# Altium schematic symbol library kmilo17pet-LT_ChargePump.SchLib: 599 symbols (part 5 of 29)
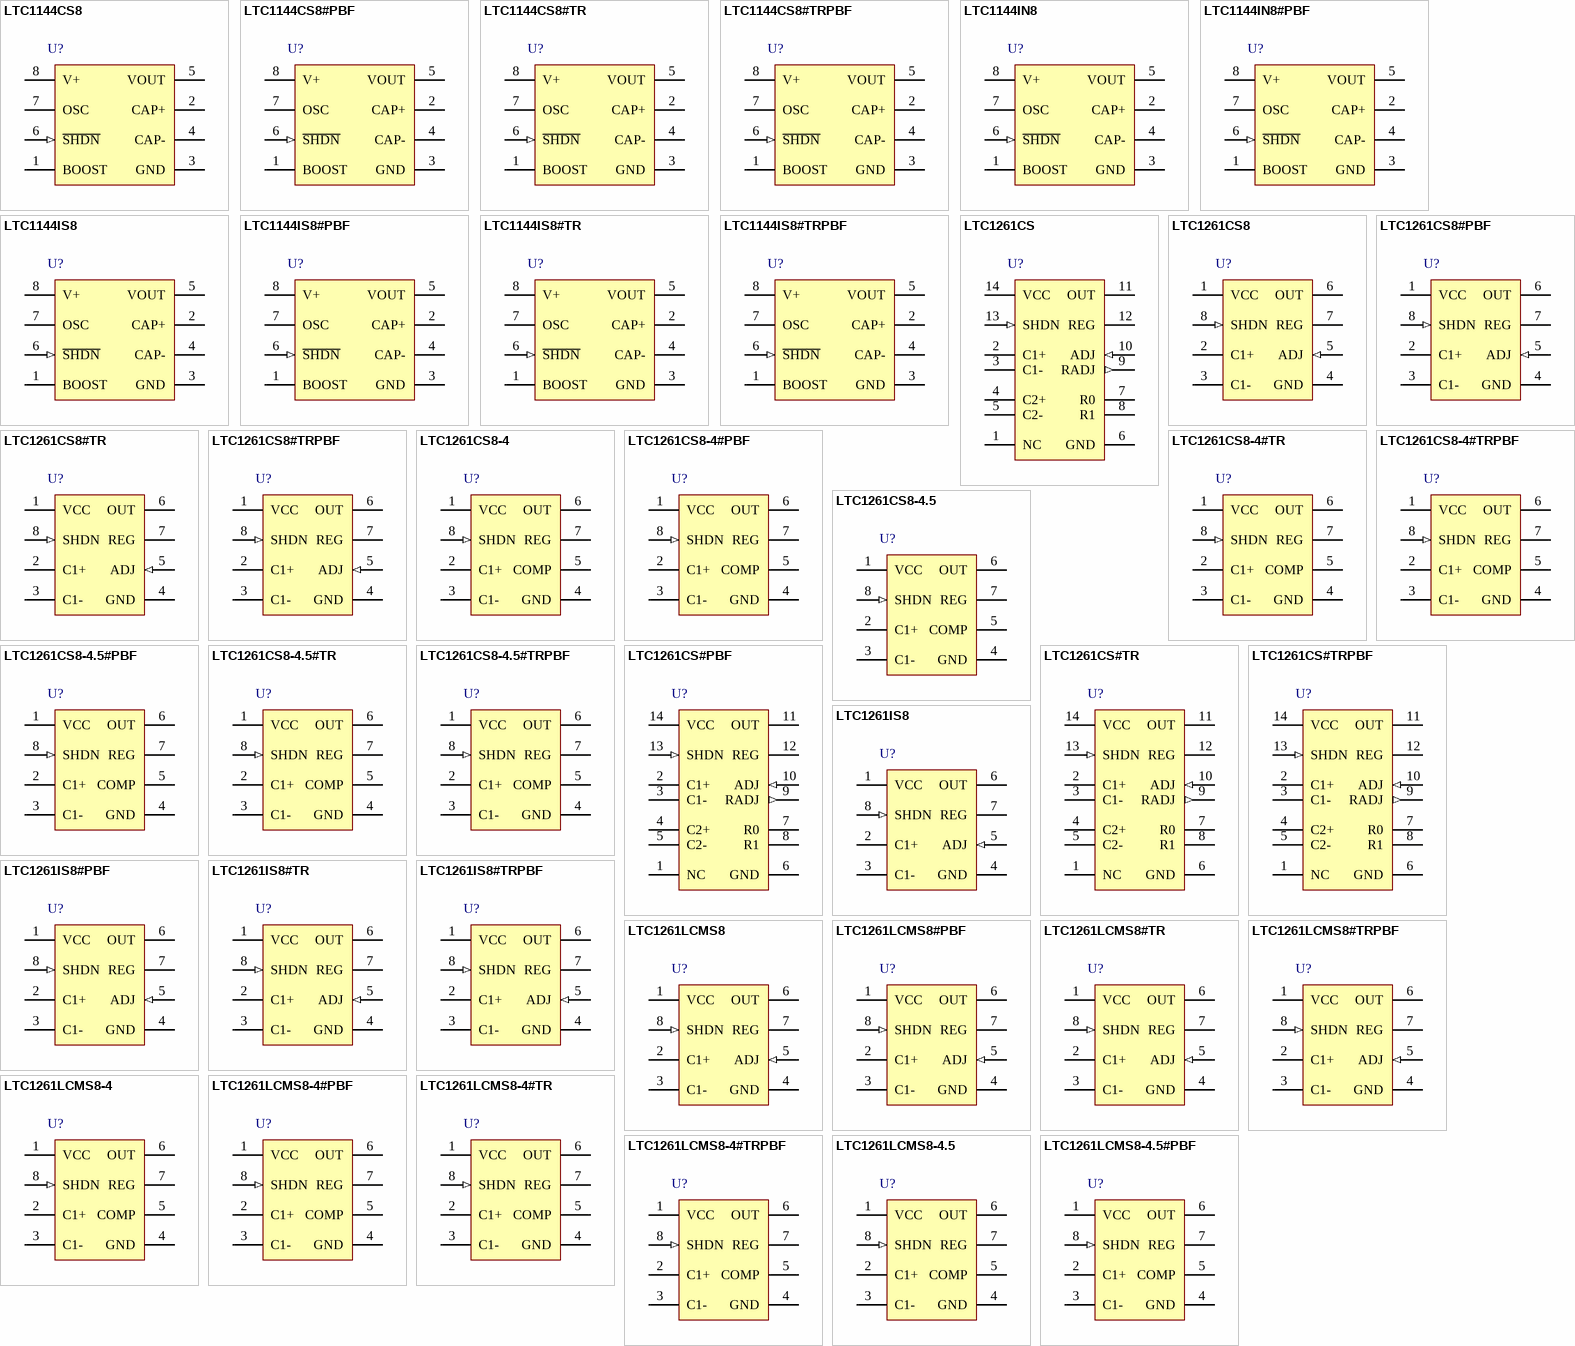
[diagram p20: symbols LTC1144CS8 to LTC1261LCMS8-4.5#PBF]

## LTC1261LCMS8#PBF
designator U?
Switched Capacitor Regulated Voltage Inverter, 2.7 to 5.25 V Vin, Adjustable Vout, 8-pin SOP (MS8-8), 0 to 70 degC, Pb-Free; Manufacturer: Linear Technology; PartNumber: LTC1261LCMS8#PBF; Frequency(kHz): 650; Ishutdown(uA): 5; Isupply(mA): 0.65; Max Iout(mA): 20; Vin Max(V): 5.25; Vin Min(V): 2.7; Voutput: Adj; DatasheetVersion: Rev. A; PackageVersion: Rev. G, 03/2012; PackageReference: MS8-8; PackageDescription: 8-Pin Plastic MSOP, Body 3 x 3 mm, Pitch 0.65 mm; Supplier 1: Digi-Key; Supplier Part Number 1: LTC1261LCMS8#PBF-ND; Supplier 2: Farnell; Supplier Part Number 2: 2294978; Supplier 3: Newark; Supplier Part Number 3: 55M9797; RoHS: TRUE; Mounting Technology: Surface Mount; ComponentLink1Description: Manufacturer URL; ComponentLink1URL: http://www.linear.com/; ComponentLink2Description: Datasheet; ComponentLink2URL: http://cds.linear.com/docs/en/datasheet/1261lfa.pdf; ComponentLink3Description: Package Specification; ComponentLink3URL: http://cds.linear.com/docs/en/packaging/05081660_G_MS8.pdf
footprint LT-MS8-8_N (SOP, 8-Leads, Body 3.1x3.1mm, Pitch 0.65mm, IPC Medium Density)
footprint LT-MS8-8_L (SOP, 8-Leads, Body 3.1x3.1mm, Pitch 0.65mm, IPC High Density)
footprint LT-MS8-8_M (SOP, 8-Leads, Body 3.1x3.1mm, Pitch 0.65mm, IPC Low Density)
pins: 1 VCC (power) "Power Supply.", 2 C1+ "C1 Positive Input. Connect a 0.1uF capacitor between C1+ and C1-.", 3 C1- "C1 Negative Input. Connect a 0.1uF capacitor from C1+ to C1-.", 4 GND (power) "Ground. Connect to a low impedance ground. A ground plane will help to minimize regulation errors.", 5 ADJ (in), 6 OUT (power), 7 REG (oc) "This is an open-drain output that pulls low when the output voltage is within 5% of the set value.", 8 SHDN (in) "Shutdown."

## LTC1261LCMS8#TR
designator U?
Switched Capacitor Regulated Voltage Inverter, 2.7 to 5.25 V Vin, Adjustable Vout, 8-pin SOP (MS8-8), 0 to 70 degC, Tape and Reel; Manufacturer: Linear Technology; PartNumber: LTC1261LCMS8#TR; Frequency(kHz): 650; Ishutdown(uA): 5; Isupply(mA): 0.65; Max Iout(mA): 20; Vin Max(V): 5.25; Vin Min(V): 2.7; Voutput: Adj; DatasheetVersion: Rev. A; PackageVersion: Rev. G, 03/2012; PackageReference: MS8-8; PackageDescription: 8-Pin Plastic MSOP, Body 3 x 3 mm, Pitch 0.65 mm; Supplier 1: Digi-Key; Supplier Part Number 1: LTC1261LCMS8#TR-ND; Packing: Tape and Reel; RoHS: FALSE; Mounting Technology: Surface Mount; ComponentLink1Description: Manufacturer URL; ComponentLink1URL: http://www.linear.com/; ComponentLink2Description: Datasheet; ComponentLink2URL: http://cds.linear.com/docs/en/datasheet/1261lfa.pdf; ComponentLink3Description: Package Specification; ComponentLink3URL: http://cds.linear.com/docs/en/packaging/05081660_G_MS8.pdf
footprint LT-MS8-8_N (SOP, 8-Leads, Body 3.1x3.1mm, Pitch 0.65mm, IPC Medium Density)
footprint LT-MS8-8_L (SOP, 8-Leads, Body 3.1x3.1mm, Pitch 0.65mm, IPC High Density)
footprint LT-MS8-8_M (SOP, 8-Leads, Body 3.1x3.1mm, Pitch 0.65mm, IPC Low Density)
pins: 1 VCC (power) "Power Supply.", 2 C1+ "C1 Positive Input. Connect a 0.1uF capacitor between C1+ and C1-.", 3 C1- "C1 Negative Input. Connect a 0.1uF capacitor from C1+ to C1-.", 4 GND (power) "Ground. Connect to a low impedance ground. A ground plane will help to minimize regulation errors.", 5 ADJ (in), 6 OUT (power), 7 REG (oc) "This is an open-drain output that pulls low when the output voltage is within 5% of the set value.", 8 SHDN (in) "Shutdown."

## LTC1261LCMS8#TRPBF
designator U?
Switched Capacitor Regulated Voltage Inverter, 2.7 to 5.25 V Vin, Adjustable Vout, 8-pin SOP (MS8-8), 0 to 70 degC, Pb-Free, Tape and Reel; Manufacturer: Linear Technology; PartNumber: LTC1261LCMS8#TRPBF; Frequency(kHz): 650; Ishutdown(uA): 5; Isupply(mA): 0.65; Max Iout(mA): 20; Vin Max(V): 5.25; Vin Min(V): 2.7; Voutput: Adj; DatasheetVersion: Rev. A; PackageVersion: Rev. G, 03/2012; PackageReference: MS8-8; PackageDescription: 8-Pin Plastic MSOP, Body 3 x 3 mm, Pitch 0.65 mm; Supplier 1: Digi-Key; Supplier Part Number 1: LTC1261LCMS8#TRPBF-ND; Packing: Tape and Reel; RoHS: TRUE; Mounting Technology: Surface Mount; ComponentLink1Description: Manufacturer URL; ComponentLink1URL: http://www.linear.com/; ComponentLink2Description: Datasheet; ComponentLink2URL: http://cds.linear.com/docs/en/datasheet/1261lfa.pdf; ComponentLink3Description: Package Specification; ComponentLink3URL: http://cds.linear.com/docs/en/packaging/05081660_G_MS8.pdf
footprint LT-MS8-8_N (SOP, 8-Leads, Body 3.1x3.1mm, Pitch 0.65mm, IPC Medium Density)
footprint LT-MS8-8_L (SOP, 8-Leads, Body 3.1x3.1mm, Pitch 0.65mm, IPC High Density)
footprint LT-MS8-8_M (SOP, 8-Leads, Body 3.1x3.1mm, Pitch 0.65mm, IPC Low Density)
pins: 1 VCC (power) "Power Supply.", 2 C1+ "C1 Positive Input. Connect a 0.1uF capacitor between C1+ and C1-.", 3 C1- "C1 Negative Input. Connect a 0.1uF capacitor from C1+ to C1-.", 4 GND (power) "Ground. Connect to a low impedance ground. A ground plane will help to minimize regulation errors.", 5 ADJ (in), 6 OUT (power), 7 REG (oc) "This is an open-drain output that pulls low when the output voltage is within 5% of the set value.", 8 SHDN (in) "Shutdown."

## LTC1261LCMS8-4
designator U?
Switched Capacitor Regulated Voltage Inverter, 4.35 to 5.25 V Vin, -4 V Vout, 8-pin SOP (MS8-8), 0 to 70 degC; Manufacturer: Linear Technology; PartNumber: LTC1261LCMS8-4; Frequency(kHz): 650; Ishutdown(uA): 5; Isupply(mA): 0.65; Max Iout(mA): 20; Vin Max(V): 5.25; Vin Min(V): 4.35; Voutput: -4 V; DatasheetVersion: Rev. A; PackageVersion: Rev. G, 03/2012; PackageReference: MS8-8; PackageDescription: 8-Pin Plastic MSOP, Body 3 x 3 mm, Pitch 0.65 mm; Supplier 1: Digi-Key; Supplier Part Number 1: LTC1261LCMS8-4-ND; RoHS: FALSE; Mounting Technology: Surface Mount; ComponentLink1Description: Manufacturer URL; ComponentLink1URL: http://www.linear.com/; ComponentLink2Description: Datasheet; ComponentLink2URL: http://cds.linear.com/docs/en/datasheet/1261lfa.pdf; ComponentLink3Description: Package Specification; ComponentLink3URL: http://cds.linear.com/docs/en/packaging/05081660_G_MS8.pdf
footprint LT-MS8-8_N (SOP, 8-Leads, Body 3.1x3.1mm, Pitch 0.65mm, IPC Medium Density)
footprint LT-MS8-8_L (SOP, 8-Leads, Body 3.1x3.1mm, Pitch 0.65mm, IPC High Density)
footprint LT-MS8-8_M (SOP, 8-Leads, Body 3.1x3.1mm, Pitch 0.65mm, IPC Low Density)
pins: 1 VCC (power), 2 C1+ "C1 Positive Input. Connect a 0.1uF capacitor between C1+ and C1-.", 3 C1- "C1 Negative Input. Connect a 0.1uF capacitor from C1+ to C1-.", 4 GND (power) "Ground. Connect to a low impedance ground. A ground plane will help to minimize regulation errors.", 5 COMP "Output Adjust/Compensation Pin. For adjustable parts this pin is used to set the output voltage. The output voltage should be divided down with a resistor divider and feedback to this pin to set the regulated output voltage. (See Datasheet)", 6 OUT (power), 7 REG (oc) "This is an open drain output that pulls low when the output voltage is within 5% of the set value. It will sink 8mA to ground with a 5V supply. The external circuitry must provide a pull-up or REG will not swing high. The (See Datasheet)", 8 SHDN (in)

## LTC1261LCMS8-4#PBF
designator U?
Switched Capacitor Regulated Voltage Inverter, 4.35 to 5.25 V Vin, -4 V Vout, 8-pin SOP (MS8-8), 0 to 70 degC, Pb-Free; Manufacturer: Linear Technology; PartNumber: LTC1261LCMS8-4#PBF; Frequency(kHz): 650; Ishutdown(uA): 5; Isupply(mA): 0.65; Max Iout(mA): 20; Vin Max(V): 5.25; Vin Min(V): 4.35; Voutput: -4 V; DatasheetVersion: Rev. A; PackageVersion: Rev. G, 03/2012; PackageReference: MS8-8; PackageDescription: 8-Pin Plastic MSOP, Body 3 x 3 mm, Pitch 0.65 mm; Supplier 1: Digi-Key; Supplier Part Number 1: LTC1261LCMS8-4#PBF-ND; RoHS: TRUE; Mounting Technology: Surface Mount; ComponentLink1Description: Manufacturer URL; ComponentLink1URL: http://www.linear.com/; ComponentLink2Description: Datasheet; ComponentLink2URL: http://cds.linear.com/docs/en/datasheet/1261lfa.pdf; ComponentLink3Description: Package Specification; ComponentLink3URL: http://cds.linear.com/docs/en/packaging/05081660_G_MS8.pdf
footprint LT-MS8-8_N (SOP, 8-Leads, Body 3.1x3.1mm, Pitch 0.65mm, IPC Medium Density)
footprint LT-MS8-8_L (SOP, 8-Leads, Body 3.1x3.1mm, Pitch 0.65mm, IPC High Density)
footprint LT-MS8-8_M (SOP, 8-Leads, Body 3.1x3.1mm, Pitch 0.65mm, IPC Low Density)
pins: 1 VCC (power), 2 C1+ "C1 Positive Input. Connect a 0.1uF capacitor between C1+ and C1-.", 3 C1- "C1 Negative Input. Connect a 0.1uF capacitor from C1+ to C1-.", 4 GND (power) "Ground. Connect to a low impedance ground. A ground plane will help to minimize regulation errors.", 5 COMP "Output Adjust/Compensation Pin. For adjustable parts this pin is used to set the output voltage. The output voltage should be divided down with a resistor divider and feedback to this pin to set the regulated output voltage. (See Datasheet)", 6 OUT (power), 7 REG (oc) "This is an open drain output that pulls low when the output voltage is within 5% of the set value. It will sink 8mA to ground with a 5V supply. The external circuitry must provide a pull-up or REG will not swing high. The (See Datasheet)", 8 SHDN (in)

## LTC1261LCMS8-4#TR
designator U?
Switched Capacitor Regulated Voltage Inverter, 4.35 to 5.25 V Vin, -4 V Vout, 8-pin SOP (MS8-8), 0 to 70 degC, Tape and Reel; Manufacturer: Linear Technology; PartNumber: LTC1261LCMS8-4#TR; Frequency(kHz): 650; Ishutdown(uA): 5; Isupply(mA): 0.65; Max Iout(mA): 20; Vin Max(V): 5.25; Vin Min(V): 4.35; Voutput: -4 V; DatasheetVersion: Rev. A; PackageVersion: Rev. G, 03/2012; PackageReference: MS8-8; PackageDescription: 8-Pin Plastic MSOP, Body 3 x 3 mm, Pitch 0.65 mm; Supplier 1: Digi-Key; Supplier Part Number 1: LTC1261LCMS8-4#TR-ND; Packing: Tape and Reel; RoHS: FALSE; Mounting Technology: Surface Mount; ComponentLink1Description: Manufacturer URL; ComponentLink1URL: http://www.linear.com/; ComponentLink2Description: Datasheet; ComponentLink2URL: http://cds.linear.com/docs/en/datasheet/1261lfa.pdf; ComponentLink3Description: Package Specification; ComponentLink3URL: http://cds.linear.com/docs/en/packaging/05081660_G_MS8.pdf
footprint LT-MS8-8_N (SOP, 8-Leads, Body 3.1x3.1mm, Pitch 0.65mm, IPC Medium Density)
footprint LT-MS8-8_L (SOP, 8-Leads, Body 3.1x3.1mm, Pitch 0.65mm, IPC High Density)
footprint LT-MS8-8_M (SOP, 8-Leads, Body 3.1x3.1mm, Pitch 0.65mm, IPC Low Density)
pins: 1 VCC (power), 2 C1+ "C1 Positive Input. Connect a 0.1uF capacitor between C1+ and C1-.", 3 C1- "C1 Negative Input. Connect a 0.1uF capacitor from C1+ to C1-.", 4 GND (power) "Ground. Connect to a low impedance ground. A ground plane will help to minimize regulation errors.", 5 COMP "Output Adjust/Compensation Pin. For adjustable parts this pin is used to set the output voltage. The output voltage should be divided down with a resistor divider and feedback to this pin to set the regulated output voltage. (See Datasheet)", 6 OUT (power), 7 REG (oc) "This is an open drain output that pulls low when the output voltage is within 5% of the set value. It will sink 8mA to ground with a 5V supply. The external circuitry must provide a pull-up or REG will not swing high. The (See Datasheet)", 8 SHDN (in)

## LTC1261LCMS8-4#TRPBF
designator U?
Switched Capacitor Regulated Voltage Inverter, 4.35 to 5.25 V Vin, -4 V Vout, 8-pin SOP (MS8-8), 0 to 70 degC, Pb-Free, Tape and Reel; Manufacturer: Linear Technology; PartNumber: LTC1261LCMS8-4#TRPBF; Frequency(kHz): 650; Ishutdown(uA): 5; Isupply(mA): 0.65; Max Iout(mA): 20; Vin Max(V): 5.25; Vin Min(V): 4.35; Voutput: -4 V; DatasheetVersion: Rev. A; PackageVersion: Rev. G, 03/2012; PackageReference: MS8-8; PackageDescription: 8-Pin Plastic MSOP, Body 3 x 3 mm, Pitch 0.65 mm; Supplier 1: Digi-Key; Supplier Part Number 1: LTC1261LCMS8-4#TRPBF-ND; Packing: Tape and Reel; RoHS: TRUE; Mounting Technology: Surface Mount; ComponentLink1Description: Manufacturer URL; ComponentLink1URL: http://www.linear.com/; ComponentLink2Description: Datasheet; ComponentLink2URL: http://cds.linear.com/docs/en/datasheet/1261lfa.pdf; ComponentLink3Description: Package Specification; ComponentLink3URL: http://cds.linear.com/docs/en/packaging/05081660_G_MS8.pdf
footprint LT-MS8-8_N (SOP, 8-Leads, Body 3.1x3.1mm, Pitch 0.65mm, IPC Medium Density)
footprint LT-MS8-8_L (SOP, 8-Leads, Body 3.1x3.1mm, Pitch 0.65mm, IPC High Density)
footprint LT-MS8-8_M (SOP, 8-Leads, Body 3.1x3.1mm, Pitch 0.65mm, IPC Low Density)
pins: 1 VCC (power), 2 C1+ "C1 Positive Input. Connect a 0.1uF capacitor between C1+ and C1-.", 3 C1- "C1 Negative Input. Connect a 0.1uF capacitor from C1+ to C1-.", 4 GND (power) "Ground. Connect to a low impedance ground. A ground plane will help to minimize regulation errors.", 5 COMP "Output Adjust/Compensation Pin. For adjustable parts this pin is used to set the output voltage. The output voltage should be divided down with a resistor divider and feedback to this pin to set the regulated output voltage. (See Datasheet)", 6 OUT (power), 7 REG (oc) "This is an open drain output that pulls low when the output voltage is within 5% of the set value. It will sink 8mA to ground with a 5V supply. The external circuitry must provide a pull-up or REG will not swing high. The (See Datasheet)", 8 SHDN (in)

## LTC1261LCMS8-4.5
designator U?
Switched Capacitor Regulated Voltage Inverter, 4.75 to 5.25 V Vin, -4.5 V Vout, 8-pin SOP (MS8-8), 0 to 70 degC; Manufacturer: Linear Technology; PartNumber: LTC1261LCMS8-4.5; Frequency(kHz): 650; Ishutdown(uA): 5; Isupply(mA): 0.65; Max Iout(mA): 20; Vin Max(V): 5.25; Vin Min(V): 4.75; Voutput: -4.5 V; DatasheetVersion: Rev. A; PackageVersion: Rev. G, 03/2012; PackageReference: MS8-8; PackageDescription: 8-Pin Plastic MSOP, Body 3 x 3 mm, Pitch 0.65 mm; Supplier 1: Digi-Key; Supplier Part Number 1: LTC1261LCMS8-4.5-ND; RoHS: FALSE; Mounting Technology: Surface Mount; ComponentLink1Description: Manufacturer URL; ComponentLink1URL: http://www.linear.com/; ComponentLink2Description: Datasheet; ComponentLink2URL: http://cds.linear.com/docs/en/datasheet/1261lfa.pdf; ComponentLink3Description: Package Specification; ComponentLink3URL: http://cds.linear.com/docs/en/packaging/05081660_G_MS8.pdf
footprint LT-MS8-8_N (SOP, 8-Leads, Body 3.1x3.1mm, Pitch 0.65mm, IPC Medium Density)
footprint LT-MS8-8_L (SOP, 8-Leads, Body 3.1x3.1mm, Pitch 0.65mm, IPC High Density)
footprint LT-MS8-8_M (SOP, 8-Leads, Body 3.1x3.1mm, Pitch 0.65mm, IPC Low Density)
pins: 1 VCC (power), 2 C1+ "C1 Positive Input. Connect a 0.1uF capacitor between C1+ and C1-.", 3 C1- "C1 Negative Input. Connect a 0.1uF capacitor from C1+ to C1-.", 4 GND (power) "Ground. Connect to a low impedance ground. A ground plane will help to minimize regulation errors.", 5 COMP "Output Adjust/Compensation Pin. For adjustable parts this pin is used to set the output voltage. The output voltage should be divided down with a resistor divider and feedback to this pin to set the regulated output voltage. (See Datasheet)", 6 OUT (power), 7 REG (oc) "This is an open drain output that pulls low when the output voltage is within 5% of the set value. It will sink 8mA to ground with a 5V supply. The external circuitry must provide a pull-up or REG will not swing high. The (See Datasheet)", 8 SHDN (in)

## LTC1261LCMS8-4.5#PBF
designator U?
Switched Capacitor Regulated Voltage Inverter, 4.75 to 5.25 V Vin, -4.5 V Vout, 8-pin SOP (MS8-8), 0 to 70 degC, Pb-Free; Manufacturer: Linear Technology; PartNumber: LTC1261LCMS8-4.5#PBF; Frequency(kHz): 650; Ishutdown(uA): 5; Isupply(mA): 0.65; Max Iout(mA): 20; Vin Max(V): 5.25; Vin Min(V): 4.75; Voutput: -4.5 V; DatasheetVersion: Rev. A; PackageVersion: Rev. G, 03/2012; PackageReference: MS8-8; PackageDescription: 8-Pin Plastic MSOP, Body 3 x 3 mm, Pitch 0.65 mm; Supplier 1: Digi-Key; Supplier Part Number 1: LTC1261LCMS8-4.5#PBF-ND; RoHS: TRUE; Mounting Technology: Surface Mount; ComponentLink1Description: Manufacturer URL; ComponentLink1URL: http://www.linear.com/; ComponentLink2Description: Datasheet; ComponentLink2URL: http://cds.linear.com/docs/en/datasheet/1261lfa.pdf; ComponentLink3Description: Package Specification; ComponentLink3URL: http://cds.linear.com/docs/en/packaging/05081660_G_MS8.pdf
footprint LT-MS8-8_N (SOP, 8-Leads, Body 3.1x3.1mm, Pitch 0.65mm, IPC Medium Density)
footprint LT-MS8-8_L (SOP, 8-Leads, Body 3.1x3.1mm, Pitch 0.65mm, IPC High Density)
footprint LT-MS8-8_M (SOP, 8-Leads, Body 3.1x3.1mm, Pitch 0.65mm, IPC Low Density)
pins: 1 VCC (power), 2 C1+ "C1 Positive Input. Connect a 0.1uF capacitor between C1+ and C1-.", 3 C1- "C1 Negative Input. Connect a 0.1uF capacitor from C1+ to C1-.", 4 GND (power) "Ground. Connect to a low impedance ground. A ground plane will help to minimize regulation errors.", 5 COMP "Output Adjust/Compensation Pin. For adjustable parts this pin is used to set the output voltage. The output voltage should be divided down with a resistor divider and feedback to this pin to set the regulated output voltage. (See Datasheet)", 6 OUT (power), 7 REG (oc) "This is an open drain output that pulls low when the output voltage is within 5% of the set value. It will sink 8mA to ground with a 5V supply. The external circuitry must provide a pull-up or REG will not swing high. The (See Datasheet)", 8 SHDN (in)

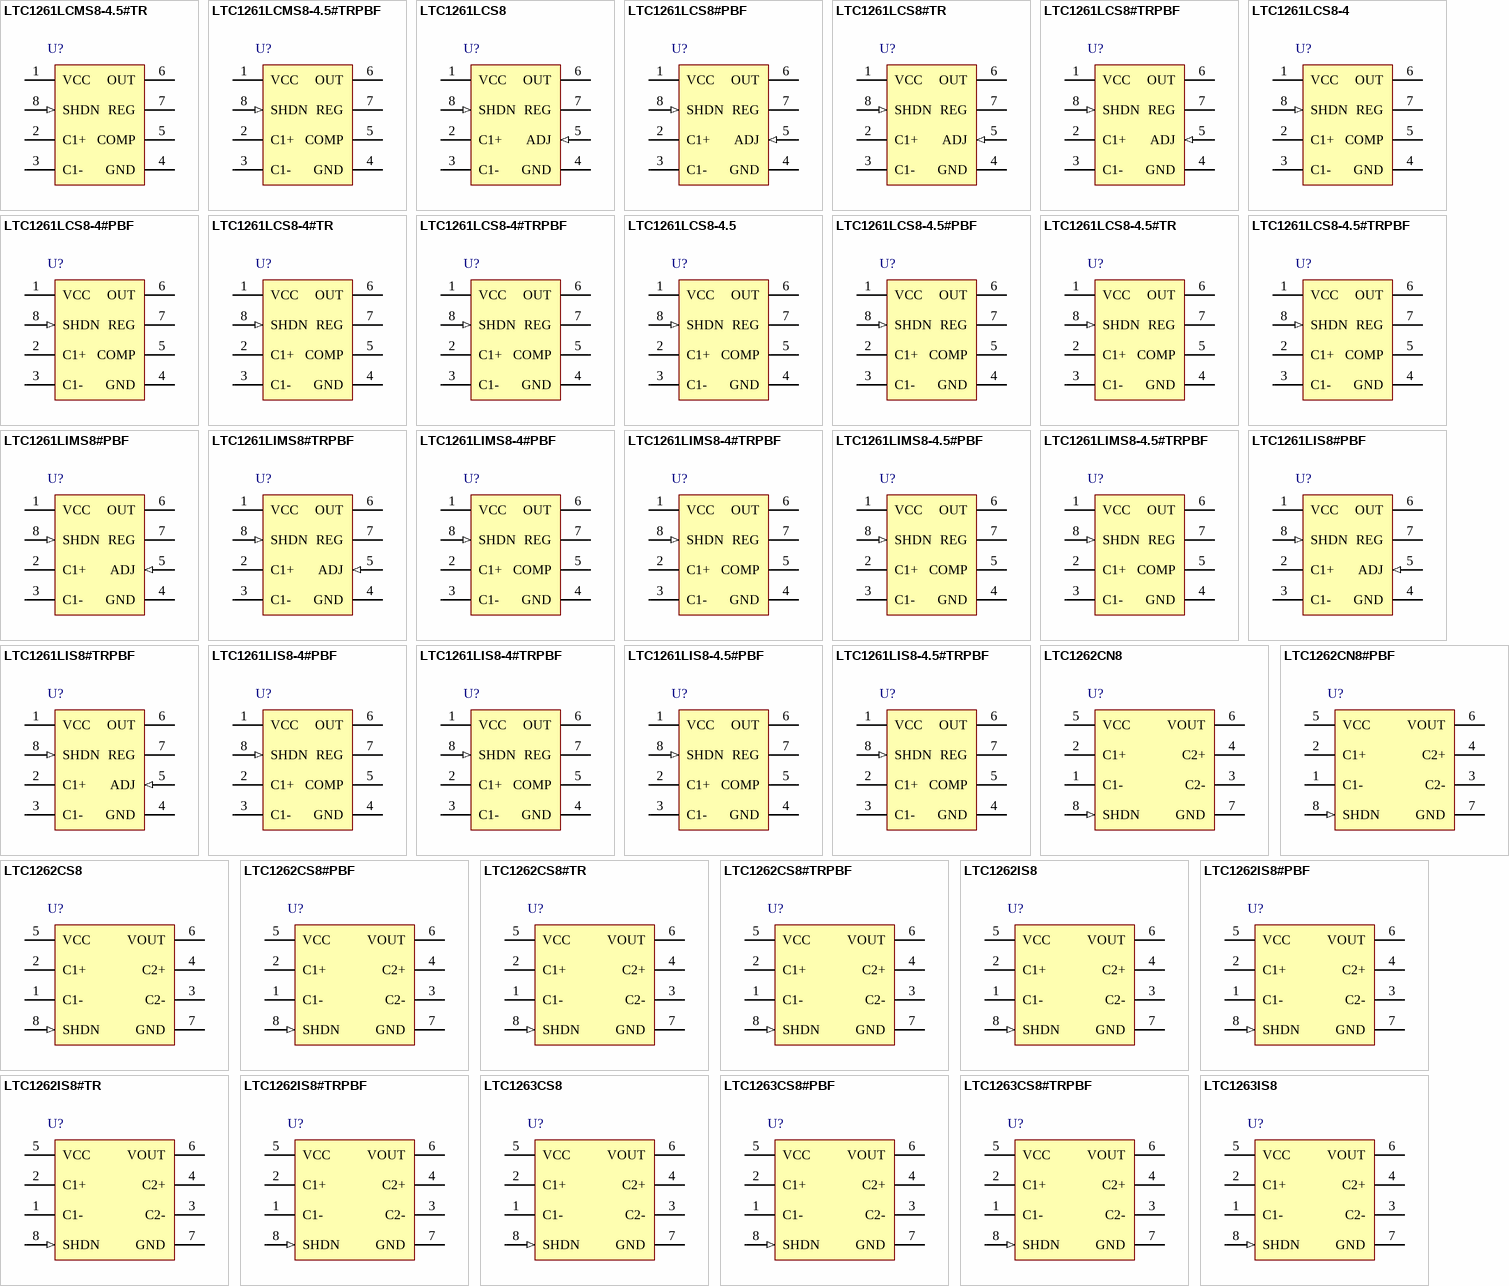
[diagram p3: symbols LTC1261LCMS8-4.5#TR to LTC1263IS8]

## LTC1261LCMS8-4.5#TR
designator U?
Switched Capacitor Regulated Voltage Inverter, 4.75 to 5.25 V Vin, -4.5 V Vout, 8-pin SOP (MS8-8), 0 to 70 degC, Tape and Reel; Manufacturer: Linear Technology; PartNumber: LTC1261LCMS8-4.5#TR; Frequency(kHz): 650; Ishutdown(uA): 5; Isupply(mA): 0.65; Max Iout(mA): 20; Vin Max(V): 5.25; Vin Min(V): 4.75; Voutput: -4.5 V; DatasheetVersion: Rev. A; PackageVersion: Rev. G, 03/2012; PackageReference: MS8-8; PackageDescription: 8-Pin Plastic MSOP, Body 3 x 3 mm, Pitch 0.65 mm; Supplier 1: Digi-Key; Supplier Part Number 1: LTC1261LCMS84.5TR-ND; Packing: Tape and Reel; RoHS: FALSE; Mounting Technology: Surface Mount; ComponentLink1Description: Manufacturer URL; ComponentLink1URL: http://www.linear.com/; ComponentLink2Description: Datasheet; ComponentLink2URL: http://cds.linear.com/docs/en/datasheet/1261lfa.pdf; ComponentLink3Description: Package Specification; ComponentLink3URL: http://cds.linear.com/docs/en/packaging/05081660_G_MS8.pdf
footprint LT-MS8-8_N (SOP, 8-Leads, Body 3.1x3.1mm, Pitch 0.65mm, IPC Medium Density)
footprint LT-MS8-8_L (SOP, 8-Leads, Body 3.1x3.1mm, Pitch 0.65mm, IPC High Density)
footprint LT-MS8-8_M (SOP, 8-Leads, Body 3.1x3.1mm, Pitch 0.65mm, IPC Low Density)
pins: 1 VCC (power), 2 C1+ "C1 Positive Input. Connect a 0.1uF capacitor between C1+ and C1-.", 3 C1- "C1 Negative Input. Connect a 0.1uF capacitor from C1+ to C1-.", 4 GND (power) "Ground. Connect to a low impedance ground. A ground plane will help to minimize regulation errors.", 5 COMP "Output Adjust/Compensation Pin. For adjustable parts this pin is used to set the output voltage. The output voltage should be divided down with a resistor divider and feedback to this pin to set the regulated output voltage. (See Datasheet)", 6 OUT (power), 7 REG (oc) "This is an open drain output that pulls low when the output voltage is within 5% of the set value. It will sink 8mA to ground with a 5V supply. The external circuitry must provide a pull-up or REG will not swing high. The (See Datasheet)", 8 SHDN (in)

## LTC1261LCMS8-4.5#TRPBF
designator U?
Switched Capacitor Regulated Voltage Inverter, 4.75 to 5.25 V Vin, -4.5 V Vout, 8-pin SOP (MS8-8), 0 to 70 degC, Pb-Free, Tape and Reel; Manufacturer: Linear Technology; PartNumber: LTC1261LCMS8-4.5#TRPBF; Frequency(kHz): 650; Ishutdown(uA): 5; Isupply(mA): 0.65; Max Iout(mA): 20; Vin Max(V): 5.25; Vin Min(V): 4.75; Voutput: -4.5 V; DatasheetVersion: Rev. A; PackageVersion: Rev. G, 03/2012; PackageReference: MS8-8; PackageDescription: 8-Pin Plastic MSOP, Body 3 x 3 mm, Pitch 0.65 mm; Supplier 1: Digi-Key; Supplier Part Number 1: LTC1261LCMS8-4.5#TRPBF-ND; Packing: Tape and Reel; RoHS: TRUE; Mounting Technology: Surface Mount; ComponentLink1Description: Manufacturer URL; ComponentLink1URL: http://www.linear.com/; ComponentLink2Description: Datasheet; ComponentLink2URL: http://cds.linear.com/docs/en/datasheet/1261lfa.pdf; ComponentLink3Description: Package Specification; ComponentLink3URL: http://cds.linear.com/docs/en/packaging/05081660_G_MS8.pdf
footprint LT-MS8-8_N (SOP, 8-Leads, Body 3.1x3.1mm, Pitch 0.65mm, IPC Medium Density)
footprint LT-MS8-8_L (SOP, 8-Leads, Body 3.1x3.1mm, Pitch 0.65mm, IPC High Density)
footprint LT-MS8-8_M (SOP, 8-Leads, Body 3.1x3.1mm, Pitch 0.65mm, IPC Low Density)
pins: 1 VCC (power), 2 C1+ "C1 Positive Input. Connect a 0.1uF capacitor between C1+ and C1-.", 3 C1- "C1 Negative Input. Connect a 0.1uF capacitor from C1+ to C1-.", 4 GND (power) "Ground. Connect to a low impedance ground. A ground plane will help to minimize regulation errors.", 5 COMP "Output Adjust/Compensation Pin. For adjustable parts this pin is used to set the output voltage. The output voltage should be divided down with a resistor divider and feedback to this pin to set the regulated output voltage. (See Datasheet)", 6 OUT (power), 7 REG (oc) "This is an open drain output that pulls low when the output voltage is within 5% of the set value. It will sink 8mA to ground with a 5V supply. The external circuitry must provide a pull-up or REG will not swing high. The (See Datasheet)", 8 SHDN (in)

## LTC1261LCS8
designator U?
Switched Capacitor Regulated Voltage Inverter, 2.7 to 5.25 V Vin, Adjustable Vout, 8-pin SOIC (S8-8), 0 to 70 degC; Manufacturer: Linear Technology; PartNumber: LTC1261LCS8; Frequency(kHz): 650; Ishutdown(uA): 5; Isupply(mA): 0.65; Max Iout(mA): 20; Vin Max(V): 5.25; Vin Min(V): 2.7; Voutput: Adj; DatasheetVersion: Rev. A; PackageVersion: Rev. G, 03/2012; PackageReference: S8-8; PackageDescription: 8-Pin Plastic Small Outline (Narrow .150 Inch), Body 4.9 x 3.9 mm, Pitch 1.27 mm; Supplier 1: Digi-Key; Supplier Part Number 1: LTC1261LCS8-ND; RoHS: FALSE; Mounting Technology: Surface Mount; ComponentLink1Description: Manufacturer URL; ComponentLink1URL: http://www.linear.com/; ComponentLink2Description: Datasheet; ComponentLink2URL: http://cds.linear.com/docs/en/datasheet/1261lfa.pdf; ComponentLink3Description: Package Specification; ComponentLink3URL: http://cds.linear.com/docs/en/packaging/05081610_G_SO8.pdf
footprint LT-S8-8_N (SOIC, 8-Leads, Body 5x4mm, Pitch 1.27mm, IPC Medium Density)
footprint LT-S8-8_L (SOIC, 8-Leads, Body 5x4mm, Pitch 1.27mm, IPC High Density)
footprint LT-S8-8_M (SOIC, 8-Leads, Body 5x4mm, Pitch 1.27mm, IPC Low Density)
pins: 1 VCC (power) "Power Supply.", 2 C1+ "C1 Positive Input. Connect a 0.1uF capacitor between C1+ and C1-.", 3 C1- "C1 Negative Input. Connect a 0.1uF capacitor from C1+ to C1-.", 4 GND (power) "Ground. Connect to a low impedance ground. A ground plane will help to minimize regulation errors.", 5 ADJ (in), 6 OUT (power), 7 REG (oc) "This is an open-drain output that pulls low when the output voltage is within 5% of the set value.", 8 SHDN (in) "Shutdown."

## LTC1261LCS8#PBF
designator U?
Switched Capacitor Regulated Voltage Inverter, 2.7 to 5.25 V Vin, Adjustable Vout, 8-pin SOIC (S8-8), 0 to 70 degC, Pb-Free; Manufacturer: Linear Technology; PartNumber: LTC1261LCS8#PBF; Frequency(kHz): 650; Ishutdown(uA): 5; Isupply(mA): 0.65; Max Iout(mA): 20; Vin Max(V): 5.25; Vin Min(V): 2.7; Voutput: Adj; DatasheetVersion: Rev. A; PackageVersion: Rev. G, 03/2012; PackageReference: S8-8; PackageDescription: 8-Pin Plastic Small Outline (Narrow .150 Inch), Body 4.9 x 3.9 mm, Pitch 1.27 mm; Supplier 1: Digi-Key; Supplier Part Number 1: LTC1261LCS8#PBF-ND; Supplier 2: Newark; Supplier Part Number 2: 55M9809; RoHS: TRUE; Mounting Technology: Surface Mount; ComponentLink1Description: Manufacturer URL; ComponentLink1URL: http://www.linear.com/; ComponentLink2Description: Datasheet; ComponentLink2URL: http://cds.linear.com/docs/en/datasheet/1261lfa.pdf; ComponentLink3Description: Package Specification; ComponentLink3URL: http://cds.linear.com/docs/en/packaging/05081610_G_SO8.pdf
footprint LT-S8-8_N (SOIC, 8-Leads, Body 5x4mm, Pitch 1.27mm, IPC Medium Density)
footprint LT-S8-8_L (SOIC, 8-Leads, Body 5x4mm, Pitch 1.27mm, IPC High Density)
footprint LT-S8-8_M (SOIC, 8-Leads, Body 5x4mm, Pitch 1.27mm, IPC Low Density)
pins: 1 VCC (power) "Power Supply.", 2 C1+ "C1 Positive Input. Connect a 0.1uF capacitor between C1+ and C1-.", 3 C1- "C1 Negative Input. Connect a 0.1uF capacitor from C1+ to C1-.", 4 GND (power) "Ground. Connect to a low impedance ground. A ground plane will help to minimize regulation errors.", 5 ADJ (in), 6 OUT (power), 7 REG (oc) "This is an open-drain output that pulls low when the output voltage is within 5% of the set value.", 8 SHDN (in) "Shutdown."

## LTC1261LCS8#TR
designator U?
Switched Capacitor Regulated Voltage Inverter, 2.7 to 5.25 V Vin, Adjustable Vout, 8-pin SOIC (S8-8), 0 to 70 degC, Tape and Reel; Manufacturer: Linear Technology; PartNumber: LTC1261LCS8#TR; Frequency(kHz): 650; Ishutdown(uA): 5; Isupply(mA): 0.65; Max Iout(mA): 20; Vin Max(V): 5.25; Vin Min(V): 2.7; Voutput: Adj; DatasheetVersion: Rev. A; PackageVersion: Rev. G, 03/2012; PackageReference: S8-8; PackageDescription: 8-Pin Plastic Small Outline (Narrow .150 Inch), Body 4.9 x 3.9 mm, Pitch 1.27 mm; Supplier 1: Digi-Key; Supplier Part Number 1: LTC1261LCS8#TR-ND; Packing: Tape and Reel; RoHS: FALSE; Mounting Technology: Surface Mount; ComponentLink1Description: Manufacturer URL; ComponentLink1URL: http://www.linear.com/; ComponentLink2Description: Datasheet; ComponentLink2URL: http://cds.linear.com/docs/en/datasheet/1261lfa.pdf; ComponentLink3Description: Package Specification; ComponentLink3URL: http://cds.linear.com/docs/en/packaging/05081610_G_SO8.pdf
footprint LT-S8-8_N (SOIC, 8-Leads, Body 5x4mm, Pitch 1.27mm, IPC Medium Density)
footprint LT-S8-8_L (SOIC, 8-Leads, Body 5x4mm, Pitch 1.27mm, IPC High Density)
footprint LT-S8-8_M (SOIC, 8-Leads, Body 5x4mm, Pitch 1.27mm, IPC Low Density)
pins: 1 VCC (power) "Power Supply.", 2 C1+ "C1 Positive Input. Connect a 0.1uF capacitor between C1+ and C1-.", 3 C1- "C1 Negative Input. Connect a 0.1uF capacitor from C1+ to C1-.", 4 GND (power) "Ground. Connect to a low impedance ground. A ground plane will help to minimize regulation errors.", 5 ADJ (in), 6 OUT (power), 7 REG (oc) "This is an open-drain output that pulls low when the output voltage is within 5% of the set value.", 8 SHDN (in) "Shutdown."

## LTC1261LCS8#TRPBF
designator U?
Switched Capacitor Regulated Voltage Inverter, 2.7 to 5.25 V Vin, Adjustable Vout, 8-pin SOIC (S8-8), 0 to 70 degC, Pb-Free, Tape and Reel; Manufacturer: Linear Technology; PartNumber: LTC1261LCS8#TRPBF; Frequency(kHz): 650; Ishutdown(uA): 5; Isupply(mA): 0.65; Max Iout(mA): 20; Vin Max(V): 5.25; Vin Min(V): 2.7; Voutput: Adj; DatasheetVersion: Rev. A; PackageVersion: Rev. G, 03/2012; PackageReference: S8-8; PackageDescription: 8-Pin Plastic Small Outline (Narrow .150 Inch), Body 4.9 x 3.9 mm, Pitch 1.27 mm; Supplier 1: Digi-Key; Supplier Part Number 1: LTC1261LCS8#TRPBF-ND; Packing: Tape and Reel; RoHS: TRUE; Mounting Technology: Surface Mount; ComponentLink1Description: Manufacturer URL; ComponentLink1URL: http://www.linear.com/; ComponentLink2Description: Datasheet; ComponentLink2URL: http://cds.linear.com/docs/en/datasheet/1261lfa.pdf; ComponentLink3Description: Package Specification; ComponentLink3URL: http://cds.linear.com/docs/en/packaging/05081610_G_SO8.pdf
footprint LT-S8-8_N (SOIC, 8-Leads, Body 5x4mm, Pitch 1.27mm, IPC Medium Density)
footprint LT-S8-8_L (SOIC, 8-Leads, Body 5x4mm, Pitch 1.27mm, IPC High Density)
footprint LT-S8-8_M (SOIC, 8-Leads, Body 5x4mm, Pitch 1.27mm, IPC Low Density)
pins: 1 VCC (power) "Power Supply.", 2 C1+ "C1 Positive Input. Connect a 0.1uF capacitor between C1+ and C1-.", 3 C1- "C1 Negative Input. Connect a 0.1uF capacitor from C1+ to C1-.", 4 GND (power) "Ground. Connect to a low impedance ground. A ground plane will help to minimize regulation errors.", 5 ADJ (in), 6 OUT (power), 7 REG (oc) "This is an open-drain output that pulls low when the output voltage is within 5% of the set value.", 8 SHDN (in) "Shutdown."

## LTC1261LCS8-4
designator U?
Switched Capacitor Regulated Voltage Inverter, 4.35 to 5.25 V Vin, -4 V Vout, 8-pin SOIC (S8-8), 0 to 70 degC; Manufacturer: Linear Technology; PartNumber: LTC1261LCS8-4; Frequency(kHz): 650; Ishutdown(uA): 5; Isupply(mA): 0.65; Max Iout(mA): 20; Vin Max(V): 5.25; Vin Min(V): 4.35; Voutput: -4 V; DatasheetVersion: Rev. A; PackageVersion: Rev. G, 03/2012; PackageReference: S8-8; PackageDescription: 8-Pin Plastic Small Outline (Narrow .150 Inch), Body 4.9 x 3.9 mm, Pitch 1.27 mm; Supplier 1: Digi-Key; Supplier Part Number 1: LTC1261LCS8-4-ND; RoHS: FALSE; Mounting Technology: Surface Mount; ComponentLink1Description: Manufacturer URL; ComponentLink1URL: http://www.linear.com/; ComponentLink2Description: Datasheet; ComponentLink2URL: http://cds.linear.com/docs/en/datasheet/1261lfa.pdf; ComponentLink3Description: Package Specification; ComponentLink3URL: http://cds.linear.com/docs/en/packaging/05081610_G_SO8.pdf
footprint LT-S8-8_N (SOIC, 8-Leads, Body 5x4mm, Pitch 1.27mm, IPC Medium Density)
footprint LT-S8-8_L (SOIC, 8-Leads, Body 5x4mm, Pitch 1.27mm, IPC High Density)
footprint LT-S8-8_M (SOIC, 8-Leads, Body 5x4mm, Pitch 1.27mm, IPC Low Density)
pins: 1 VCC (power), 2 C1+ "C1 Positive Input. Connect a 0.1uF capacitor between C1+ and C1-.", 3 C1- "C1 Negative Input. Connect a 0.1uF capacitor from C1+ to C1-.", 4 GND (power) "Ground. Connect to a low impedance ground. A ground plane will help to minimize regulation errors.", 5 COMP "Output Adjust/Compensation Pin. For adjustable parts this pin is used to set the output voltage. The output voltage should be divided down with a resistor divider and feedback to this pin to set the regulated output voltage. (See Datasheet)", 6 OUT (power), 7 REG (oc) "This is an open drain output that pulls low when the output voltage is within 5% of the set value. It will sink 8mA to ground with a 5V supply. The external circuitry must provide a pull-up or REG will not swing high. The (See Datasheet)", 8 SHDN (in)

## LTC1261LCS8-4#PBF
designator U?
Switched Capacitor Regulated Voltage Inverter, 4.35 to 5.25 V Vin, -4 V Vout, 8-pin SOIC (S8-8), 0 to 70 degC, Pb-Free; Manufacturer: Linear Technology; PartNumber: LTC1261LCS8-4#PBF; Frequency(kHz): 650; Ishutdown(uA): 5; Isupply(mA): 0.65; Max Iout(mA): 20; Vin Max(V): 5.25; Vin Min(V): 4.35; Voutput: -4 V; DatasheetVersion: Rev. A; PackageVersion: Rev. G, 03/2012; PackageReference: S8-8; PackageDescription: 8-Pin Plastic Small Outline (Narrow .150 Inch), Body 4.9 x 3.9 mm, Pitch 1.27 mm; Supplier 1: Digi-Key; Supplier Part Number 1: LTC1261LCS8-4#PBF-ND; RoHS: TRUE; Mounting Technology: Surface Mount; ComponentLink1Description: Manufacturer URL; ComponentLink1URL: http://www.linear.com/; ComponentLink2Description: Datasheet; ComponentLink2URL: http://cds.linear.com/docs/en/datasheet/1261lfa.pdf; ComponentLink3Description: Package Specification; ComponentLink3URL: http://cds.linear.com/docs/en/packaging/05081610_G_SO8.pdf
footprint LT-S8-8_N (SOIC, 8-Leads, Body 5x4mm, Pitch 1.27mm, IPC Medium Density)
footprint LT-S8-8_L (SOIC, 8-Leads, Body 5x4mm, Pitch 1.27mm, IPC High Density)
footprint LT-S8-8_M (SOIC, 8-Leads, Body 5x4mm, Pitch 1.27mm, IPC Low Density)
pins: 1 VCC (power), 2 C1+ "C1 Positive Input. Connect a 0.1uF capacitor between C1+ and C1-.", 3 C1- "C1 Negative Input. Connect a 0.1uF capacitor from C1+ to C1-.", 4 GND (power) "Ground. Connect to a low impedance ground. A ground plane will help to minimize regulation errors.", 5 COMP "Output Adjust/Compensation Pin. For adjustable parts this pin is used to set the output voltage. The output voltage should be divided down with a resistor divider and feedback to this pin to set the regulated output voltage. (See Datasheet)", 6 OUT (power), 7 REG (oc) "This is an open drain output that pulls low when the output voltage is within 5% of the set value. It will sink 8mA to ground with a 5V supply. The external circuitry must provide a pull-up or REG will not swing high. The (See Datasheet)", 8 SHDN (in)

## LTC1261LCS8-4#TR
designator U?
Switched Capacitor Regulated Voltage Inverter, 4.35 to 5.25 V Vin, -4 V Vout, 8-pin SOIC (S8-8), 0 to 70 degC, Tape and Reel; Manufacturer: Linear Technology; PartNumber: LTC1261LCS8-4#TR; Frequency(kHz): 650; Ishutdown(uA): 5; Isupply(mA): 0.65; Max Iout(mA): 20; Vin Max(V): 5.25; Vin Min(V): 4.35; Voutput: -4 V; DatasheetVersion: Rev. A; PackageVersion: Rev. G, 03/2012; PackageReference: S8-8; PackageDescription: 8-Pin Plastic Small Outline (Narrow .150 Inch), Body 4.9 x 3.9 mm, Pitch 1.27 mm; Supplier 1: Digi-Key; Supplier Part Number 1: LTC1261LCS8-4#TR-ND; Packing: Tape and Reel; RoHS: FALSE; Mounting Technology: Surface Mount; ComponentLink1Description: Manufacturer URL; ComponentLink1URL: http://www.linear.com/; ComponentLink2Description: Datasheet; ComponentLink2URL: http://cds.linear.com/docs/en/datasheet/1261lfa.pdf; ComponentLink3Description: Package Specification; ComponentLink3URL: http://cds.linear.com/docs/en/packaging/05081610_G_SO8.pdf
footprint LT-S8-8_N (SOIC, 8-Leads, Body 5x4mm, Pitch 1.27mm, IPC Medium Density)
footprint LT-S8-8_L (SOIC, 8-Leads, Body 5x4mm, Pitch 1.27mm, IPC High Density)
footprint LT-S8-8_M (SOIC, 8-Leads, Body 5x4mm, Pitch 1.27mm, IPC Low Density)
pins: 1 VCC (power), 2 C1+ "C1 Positive Input. Connect a 0.1uF capacitor between C1+ and C1-.", 3 C1- "C1 Negative Input. Connect a 0.1uF capacitor from C1+ to C1-.", 4 GND (power) "Ground. Connect to a low impedance ground. A ground plane will help to minimize regulation errors.", 5 COMP "Output Adjust/Compensation Pin. For adjustable parts this pin is used to set the output voltage. The output voltage should be divided down with a resistor divider and feedback to this pin to set the regulated output voltage. (See Datasheet)", 6 OUT (power), 7 REG (oc) "This is an open drain output that pulls low when the output voltage is within 5% of the set value. It will sink 8mA to ground with a 5V supply. The external circuitry must provide a pull-up or REG will not swing high. The (See Datasheet)", 8 SHDN (in)

## LTC1261LCS8-4#TRPBF
designator U?
Switched Capacitor Regulated Voltage Inverter, 4.35 to 5.25 V Vin, -4 V Vout, 8-pin SOIC (S8-8), 0 to 70 degC, Pb-Free, Tape and Reel; Manufacturer: Linear Technology; PartNumber: LTC1261LCS8-4#TRPBF; Frequency(kHz): 650; Ishutdown(uA): 5; Isupply(mA): 0.65; Max Iout(mA): 20; Vin Max(V): 5.25; Vin Min(V): 4.35; Voutput: -4 V; DatasheetVersion: Rev. A; PackageVersion: Rev. G, 03/2012; PackageReference: S8-8; PackageDescription: 8-Pin Plastic Small Outline (Narrow .150 Inch), Body 4.9 x 3.9 mm, Pitch 1.27 mm; Supplier 1: Digi-Key; Supplier Part Number 1: LTC1261LCS8-4#TRPBF-ND; Packing: Tape and Reel; RoHS: TRUE; Mounting Technology: Surface Mount; ComponentLink1Description: Manufacturer URL; ComponentLink1URL: http://www.linear.com/; ComponentLink2Description: Datasheet; ComponentLink2URL: http://cds.linear.com/docs/en/datasheet/1261lfa.pdf; ComponentLink3Description: Package Specification; ComponentLink3URL: http://cds.linear.com/docs/en/packaging/05081610_G_SO8.pdf
footprint LT-S8-8_N (SOIC, 8-Leads, Body 5x4mm, Pitch 1.27mm, IPC Medium Density)
footprint LT-S8-8_L (SOIC, 8-Leads, Body 5x4mm, Pitch 1.27mm, IPC High Density)
footprint LT-S8-8_M (SOIC, 8-Leads, Body 5x4mm, Pitch 1.27mm, IPC Low Density)
pins: 1 VCC (power), 2 C1+ "C1 Positive Input. Connect a 0.1uF capacitor between C1+ and C1-.", 3 C1- "C1 Negative Input. Connect a 0.1uF capacitor from C1+ to C1-.", 4 GND (power) "Ground. Connect to a low impedance ground. A ground plane will help to minimize regulation errors.", 5 COMP "Output Adjust/Compensation Pin. For adjustable parts this pin is used to set the output voltage. The output voltage should be divided down with a resistor divider and feedback to this pin to set the regulated output voltage. (See Datasheet)", 6 OUT (power), 7 REG (oc) "This is an open drain output that pulls low when the output voltage is within 5% of the set value. It will sink 8mA to ground with a 5V supply. The external circuitry must provide a pull-up or REG will not swing high. The (See Datasheet)", 8 SHDN (in)

## LTC1261LCS8-4.5
designator U?
Switched Capacitor Regulated Voltage Inverter, 4.75 to 5.25 V Vin, -4.5 V Vout, 8-pin SOIC (S8-8), 0 to 70 degC; Manufacturer: Linear Technology; PartNumber: LTC1261LCS8-4.5; Frequency(kHz): 650; Ishutdown(uA): 5; Isupply(mA): 0.65; Max Iout(mA): 20; Vin Max(V): 5.25; Vin Min(V): 4.75; Voutput: -4.5 V; DatasheetVersion: Rev. A; PackageVersion: Rev. G, 03/2012; PackageReference: S8-8; PackageDescription: 8-Pin Plastic Small Outline (Narrow .150 Inch), Body 4.9 x 3.9 mm, Pitch 1.27 mm; Supplier 1: Digi-Key; Supplier Part Number 1: LTC1261LCS8-4.5-ND; RoHS: FALSE; Mounting Technology: Surface Mount; ComponentLink1Description: Manufacturer URL; ComponentLink1URL: http://www.linear.com/; ComponentLink2Description: Datasheet; ComponentLink2URL: http://cds.linear.com/docs/en/datasheet/1261lfa.pdf; ComponentLink3Description: Package Specification; ComponentLink3URL: http://cds.linear.com/docs/en/packaging/05081610_G_SO8.pdf
footprint LT-S8-8_N (SOIC, 8-Leads, Body 5x4mm, Pitch 1.27mm, IPC Medium Density)
footprint LT-S8-8_L (SOIC, 8-Leads, Body 5x4mm, Pitch 1.27mm, IPC High Density)
footprint LT-S8-8_M (SOIC, 8-Leads, Body 5x4mm, Pitch 1.27mm, IPC Low Density)
pins: 1 VCC (power), 2 C1+ "C1 Positive Input. Connect a 0.1uF capacitor between C1+ and C1-.", 3 C1- "C1 Negative Input. Connect a 0.1uF capacitor from C1+ to C1-.", 4 GND (power) "Ground. Connect to a low impedance ground. A ground plane will help to minimize regulation errors.", 5 COMP "Output Adjust/Compensation Pin. For adjustable parts this pin is used to set the output voltage. The output voltage should be divided down with a resistor divider and feedback to this pin to set the regulated output voltage. (See Datasheet)", 6 OUT (power), 7 REG (oc) "This is an open drain output that pulls low when the output voltage is within 5% of the set value. It will sink 8mA to ground with a 5V supply. The external circuitry must provide a pull-up or REG will not swing high. The (See Datasheet)", 8 SHDN (in)

## LTC1261LCS8-4.5#PBF
designator U?
Switched Capacitor Regulated Voltage Inverter, 4.75 to 5.25 V Vin, -4.5 V Vout, 8-pin SOIC (S8-8), 0 to 70 degC, Pb-Free; Manufacturer: Linear Technology; PartNumber: LTC1261LCS8-4.5#PBF; Frequency(kHz): 650; Ishutdown(uA): 5; Isupply(mA): 0.65; Max Iout(mA): 20; Vin Max(V): 5.25; Vin Min(V): 4.75; Voutput: -4.5 V; DatasheetVersion: Rev. A; PackageVersion: Rev. G, 03/2012; PackageReference: S8-8; PackageDescription: 8-Pin Plastic Small Outline (Narrow .150 Inch), Body 4.9 x 3.9 mm, Pitch 1.27 mm; Supplier 1: Digi-Key; Supplier Part Number 1: LTC1261LCS8-4.5#PBF-ND; RoHS: TRUE; Mounting Technology: Surface Mount; ComponentLink1Description: Manufacturer URL; ComponentLink1URL: http://www.linear.com/; ComponentLink2Description: Datasheet; ComponentLink2URL: http://cds.linear.com/docs/en/datasheet/1261lfa.pdf; ComponentLink3Description: Package Specification; ComponentLink3URL: http://cds.linear.com/docs/en/packaging/05081610_G_SO8.pdf
footprint LT-S8-8_N (SOIC, 8-Leads, Body 5x4mm, Pitch 1.27mm, IPC Medium Density)
footprint LT-S8-8_L (SOIC, 8-Leads, Body 5x4mm, Pitch 1.27mm, IPC High Density)
footprint LT-S8-8_M (SOIC, 8-Leads, Body 5x4mm, Pitch 1.27mm, IPC Low Density)
pins: 1 VCC (power), 2 C1+ "C1 Positive Input. Connect a 0.1uF capacitor between C1+ and C1-.", 3 C1- "C1 Negative Input. Connect a 0.1uF capacitor from C1+ to C1-.", 4 GND (power) "Ground. Connect to a low impedance ground. A ground plane will help to minimize regulation errors.", 5 COMP "Output Adjust/Compensation Pin. For adjustable parts this pin is used to set the output voltage. The output voltage should be divided down with a resistor divider and feedback to this pin to set the regulated output voltage. (See Datasheet)", 6 OUT (power), 7 REG (oc) "This is an open drain output that pulls low when the output voltage is within 5% of the set value. It will sink 8mA to ground with a 5V supply. The external circuitry must provide a pull-up or REG will not swing high. The (See Datasheet)", 8 SHDN (in)

## LTC1261LCS8-4.5#TR
designator U?
Switched Capacitor Regulated Voltage Inverter, 4.75 to 5.25 V Vin, -4.5 V Vout, 8-pin SOIC (S8-8), 0 to 70 degC, , Tape and Reel; Manufacturer: Linear Technology; PartNumber: LTC1261LCS8-4.5#TR; Frequency(kHz): 650; Ishutdown(uA): 5; Isupply(mA): 0.65; Max Iout(mA): 20; Vin Max(V): 5.25; Vin Min(V): 4.75; Voutput: -4.5 V; DatasheetVersion: Rev. A; PackageVersion: Rev. G, 03/2012; PackageReference: S8-8; PackageDescription: 8-Pin Plastic Small Outline (Narrow .150 Inch), Body 4.9 x 3.9 mm, Pitch 1.27 mm; Supplier 1: Digi-Key; Supplier Part Number 1: LTC1261LCS8-4.5TR-ND; Packing: Tape and Reel; RoHS: FALSE; Mounting Technology: Surface Mount; ComponentLink1Description: Manufacturer URL; ComponentLink1URL: http://www.linear.com/; ComponentLink2Description: Datasheet; ComponentLink2URL: http://cds.linear.com/docs/en/datasheet/1261lfa.pdf; ComponentLink3Description: Package Specification; ComponentLink3URL: http://cds.linear.com/docs/en/packaging/05081610_G_SO8.pdf
footprint LT-S8-8_N (SOIC, 8-Leads, Body 5x4mm, Pitch 1.27mm, IPC Medium Density)
footprint LT-S8-8_L (SOIC, 8-Leads, Body 5x4mm, Pitch 1.27mm, IPC High Density)
footprint LT-S8-8_M (SOIC, 8-Leads, Body 5x4mm, Pitch 1.27mm, IPC Low Density)
pins: 1 VCC (power), 2 C1+ "C1 Positive Input. Connect a 0.1uF capacitor between C1+ and C1-.", 3 C1- "C1 Negative Input. Connect a 0.1uF capacitor from C1+ to C1-.", 4 GND (power) "Ground. Connect to a low impedance ground. A ground plane will help to minimize regulation errors.", 5 COMP "Output Adjust/Compensation Pin. For adjustable parts this pin is used to set the output voltage. The output voltage should be divided down with a resistor divider and feedback to this pin to set the regulated output voltage. (See Datasheet)", 6 OUT (power), 7 REG (oc) "This is an open drain output that pulls low when the output voltage is within 5% of the set value. It will sink 8mA to ground with a 5V supply. The external circuitry must provide a pull-up or REG will not swing high. The (See Datasheet)", 8 SHDN (in)

## LTC1261LCS8-4.5#TRPBF
designator U?
Switched Capacitor Regulated Voltage Inverter, 4.75 to 5.25 V Vin, -4.5 V Vout, 8-pin SOIC (S8-8), 0 to 70 degC, Pb-Free, Tape and Reel; Manufacturer: Linear Technology; PartNumber: LTC1261LCS8-4.5#TRPBF; Frequency(kHz): 650; Ishutdown(uA): 5; Isupply(mA): 0.65; Max Iout(mA): 20; Vin Max(V): 5.25; Vin Min(V): 4.75; Voutput: -4.5 V; DatasheetVersion: Rev. A; PackageVersion: Rev. G, 03/2012; PackageReference: S8-8; PackageDescription: 8-Pin Plastic Small Outline (Narrow .150 Inch), Body 4.9 x 3.9 mm, Pitch 1.27 mm; Supplier 1: Digi-Key; Supplier Part Number 1: LTC1261LCS8-4.5#TRPBF-ND; Packing: Tape and Reel; RoHS: TRUE; Mounting Technology: Surface Mount; ComponentLink1Description: Manufacturer URL; ComponentLink1URL: http://www.linear.com/; ComponentLink2Description: Datasheet; ComponentLink2URL: http://cds.linear.com/docs/en/datasheet/1261lfa.pdf; ComponentLink3Description: Package Specification; ComponentLink3URL: http://cds.linear.com/docs/en/packaging/05081610_G_SO8.pdf
footprint LT-S8-8_N (SOIC, 8-Leads, Body 5x4mm, Pitch 1.27mm, IPC Medium Density)
footprint LT-S8-8_L (SOIC, 8-Leads, Body 5x4mm, Pitch 1.27mm, IPC High Density)
footprint LT-S8-8_M (SOIC, 8-Leads, Body 5x4mm, Pitch 1.27mm, IPC Low Density)
pins: 1 VCC (power), 2 C1+ "C1 Positive Input. Connect a 0.1uF capacitor between C1+ and C1-.", 3 C1- "C1 Negative Input. Connect a 0.1uF capacitor from C1+ to C1-.", 4 GND (power) "Ground. Connect to a low impedance ground. A ground plane will help to minimize regulation errors.", 5 COMP "Output Adjust/Compensation Pin. For adjustable parts this pin is used to set the output voltage. The output voltage should be divided down with a resistor divider and feedback to this pin to set the regulated output voltage. (See Datasheet)", 6 OUT (power), 7 REG (oc) "This is an open drain output that pulls low when the output voltage is within 5% of the set value. It will sink 8mA to ground with a 5V supply. The external circuitry must provide a pull-up or REG will not swing high. The (See Datasheet)", 8 SHDN (in)

## LTC1261LIMS8#PBF
designator U?
Switched Capacitor Regulated Voltage Inverter, 2.7 to 5.25 V Vin, Adjustable Vout, 8-pin SOP (MS8-8), -40 to 85 degC, Pb-Free; Manufacturer: Linear Technology; PartNumber: LTC1261LIMS8#PBF; Frequency(kHz): 650; Ishutdown(uA): 5; Isupply(mA): 0.65; Max Iout(mA): 20; Vin Max(V): 5.25; Vin Min(V): 2.7; Voutput: Adj; DatasheetVersion: Rev. A; PackageVersion: Rev. G, 03/2012; PackageReference: MS8-8; PackageDescription: 8-Pin Plastic MSOP, Body 3 x 3 mm, Pitch 0.65 mm; Supplier 1: Digi-Key; Supplier Part Number 1: LTC1261LIMS8#PBF-ND; Supplier 2: Farnell; Supplier Part Number 2: 2293097; Supplier 3: Newark; Supplier Part Number 3: 45W8457; RoHS: TRUE; Mounting Technology: Surface Mount; ComponentLink1Description: Manufacturer URL; ComponentLink1URL: http://www.linear.com/; ComponentLink2Description: Datasheet; ComponentLink2URL: http://cds.linear.com/docs/en/datasheet/1261lfa.pdf; ComponentLink3Description: Package Specification; ComponentLink3URL: http://cds.linear.com/docs/en/packaging/05081660_G_MS8.pdf
footprint LT-MS8-8_N (SOP, 8-Leads, Body 3.1x3.1mm, Pitch 0.65mm, IPC Medium Density)
footprint LT-MS8-8_L (SOP, 8-Leads, Body 3.1x3.1mm, Pitch 0.65mm, IPC High Density)
footprint LT-MS8-8_M (SOP, 8-Leads, Body 3.1x3.1mm, Pitch 0.65mm, IPC Low Density)
pins: 1 VCC (power) "Power Supply.", 2 C1+ "C1 Positive Input. Connect a 0.1uF capacitor between C1+ and C1-.", 3 C1- "C1 Negative Input. Connect a 0.1uF capacitor from C1+ to C1-.", 4 GND (power) "Ground. Connect to a low impedance ground. A ground plane will help to minimize regulation errors.", 5 ADJ (in), 6 OUT (power), 7 REG (oc) "This is an open-drain output that pulls low when the output voltage is within 5% of the set value.", 8 SHDN (in) "Shutdown."

## LTC1261LIMS8#TRPBF
designator U?
Switched Capacitor Regulated Voltage Inverter, 2.7 to 5.25 V Vin, Adjustable Vout, 8-pin SOP (MS8-8), -40 to 85 degC, Pb-Free, Tape and Reel; Manufacturer: Linear Technology; PartNumber: LTC1261LIMS8#TRPBF; Frequency(kHz): 650; Ishutdown(uA): 5; Isupply(mA): 0.65; Max Iout(mA): 20; Vin Max(V): 5.25; Vin Min(V): 2.7; Voutput: Adj; DatasheetVersion: Rev. A; PackageVersion: Rev. G, 03/2012; PackageReference: MS8-8; PackageDescription: 8-Pin Plastic MSOP, Body 3 x 3 mm, Pitch 0.65 mm; Supplier 1: Digi-Key; Supplier Part Number 1: LTC1261LIMS8#TRPBF-ND; Supplier 2: Newark; Supplier Part Number 2: 45W8458; Packing: Tape and Reel; RoHS: TRUE; Mounting Technology: Surface Mount; ComponentLink1Description: Manufacturer URL; ComponentLink1URL: http://www.linear.com/; ComponentLink2Description: Datasheet; ComponentLink2URL: http://cds.linear.com/docs/en/datasheet/1261lfa.pdf; ComponentLink3Description: Package Specification; ComponentLink3URL: http://cds.linear.com/docs/en/packaging/05081660_G_MS8.pdf
footprint LT-MS8-8_N (SOP, 8-Leads, Body 3.1x3.1mm, Pitch 0.65mm, IPC Medium Density)
footprint LT-MS8-8_L (SOP, 8-Leads, Body 3.1x3.1mm, Pitch 0.65mm, IPC High Density)
footprint LT-MS8-8_M (SOP, 8-Leads, Body 3.1x3.1mm, Pitch 0.65mm, IPC Low Density)
pins: 1 VCC (power) "Power Supply.", 2 C1+ "C1 Positive Input. Connect a 0.1uF capacitor between C1+ and C1-.", 3 C1- "C1 Negative Input. Connect a 0.1uF capacitor from C1+ to C1-.", 4 GND (power) "Ground. Connect to a low impedance ground. A ground plane will help to minimize regulation errors.", 5 ADJ (in), 6 OUT (power), 7 REG (oc) "This is an open-drain output that pulls low when the output voltage is within 5% of the set value.", 8 SHDN (in) "Shutdown."